# Altium schematic symbol library Schlib1.SchLib: 3 symbols
Pins are listed as number, name and electrical type; pins without a type are passive.

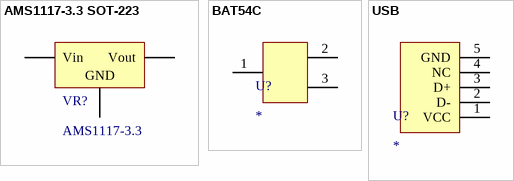
[diagram p0: symbols AMS1117-3.3 SOT-223 to USB]

## AMS1117-3.3 SOT-223
designator VR?, comment AMS1117-3.3
低压差线性稳压(LDO); ComponentLink1Description: 供应商链接; ComponentLink1URL: http://www.szlcsc.com/product/details_6652.html; Package: SOT-223; Supplier: LC; SuppliersPartNumber: C6186
footprint 1117
pins: 1 GND, 2 Vout, 3 Vin

## BAT54C
designator U?
footprint MPU-6050
pins: 1 VDD-4, 2 VDD-5, 3

## USB
designator U?
footprint USB-MICRO
pins: 1 VCC, 2 D-, 3 D+, 4 NC, 5 GND